# Altium schematic symbol library Physio_Symbols.SchLib: 3 symbols
Pins are listed as number, name and electrical type; pins without a type are passive.

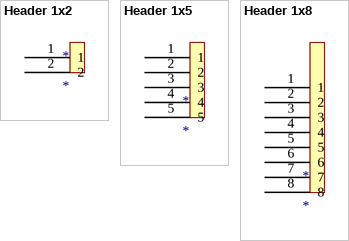
[diagram p0: symbols Header 1x2 to Header 1x8]

## Header 1x2
designator *
pins: 1, 2

## Header 1x5
designator *
pins: 1, 2, 3, 4, 5

## Header 1x8
designator *
footprint HDR1x8 2.54mm
pins: 1, 2, 3, 4, 5, 6, 7, 8